# Altium schematic symbol library MBR140SFT1G.SchLib: 1 symbol
Pins are listed as number, name and electrical type; pins without a type are passive.

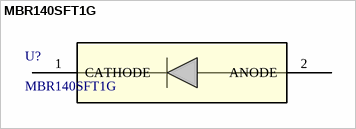
[diagram p0: symbol MBR140SFT1G]

## MBR140SFT1G
designator U?
Description; Manufacturer_Name: onsemi; Copyright: Copyright (C) 2026 Ultra Librarian. All rights reserved.; Manufacturer_Part_Number: MBR140SFT1G; RefDes: RefDes; Type: Type
footprint SOD_40SFT1G_ONS
pins: 1 CATHODE, 2 ANODE